# EAGLE library part TL084_PDIP (library motordriverslib)
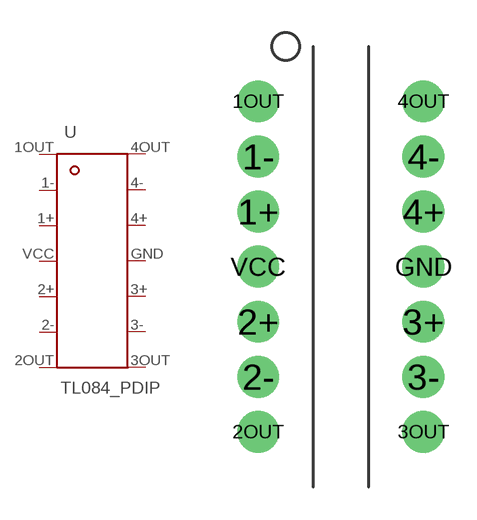
[diagram p0: symbol with the pads of 14PDIP; footprint 14PDIP]

Designator prefix U

## TL084_PDIP  [14PDIP]
1+  1+
1-  1-
1OUT  OUT1
2+  2+
2-  2-
2OUT  OUT2
3+  3+
3-  3-
3OUT  OUT3
4+  4+
4-  4-
4OUT  OUT4
GND  GND
VCC  VCC

## Footprint 14PDIP (pad centres in mm)
drill 1.016 pad 1.93: 1+ 0,-5.08; 1- 0,-2.54; 1OUT 0,0; 2+ 0,-10.16; 2- 0,-12.7; 2OUT 0,-15.24; 3+ 7.62,-10.16; 3- 7.62,-12.7; 3OUT 7.62,-15.24; 4+ 7.62,-5.08; 4- 7.62,-2.54; 4OUT 7.62,0; GND 7.62,-7.62; VCC 0,-7.62